# Altium schematic symbol library Coin_Cell_Retainer.SchLib: 1 symbol
Pins are listed as number, name and electrical type; pins without a type are passive.

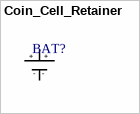
[diagram p0: symbol Coin_Cell_Retainer]

## Coin_Cell_Retainer
designator BAT?
coin cell battery holder
pins: 1 +, 2 -